# EAGLE library part ADAFRUIT-BNO055 (library BNO055)
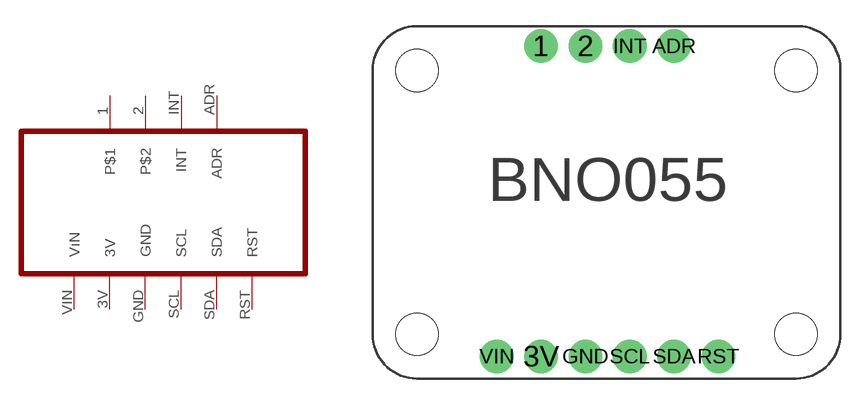
[diagram p0: symbol with the pads of BNO055; footprint BNO055]

Designator prefix -

## ADAFRUIT-BNO055  [BNO055]
1  P$1
2  P$2
3V  3V  pwr
ADR  ADR
GND  GND  pwr
INT  INT
RST  RST
SCL  SCL
SDA  SDA
VIN  VıN  pwr

## Footprint BNO055 (pad centres in mm)
drill 1 pad 1.93: 1 -3.81,17.78; 2 -1.27,17.78; 3V -3.81,0; ADR 3.81,17.78; GND -1.27,0; INT 1.27,17.78; RST 6.35,0; SCL 1.27,0; SDA 3.81,0; VIN -6.35,0
hole 2.413 at 10.795,16.383
hole 2.413 at -10.922,16.383
hole 2.413 at 10.795,1.27
hole 2.413 at -10.922,1.27